# EAGLE library part REG_MODULE (library REG_MODULE)
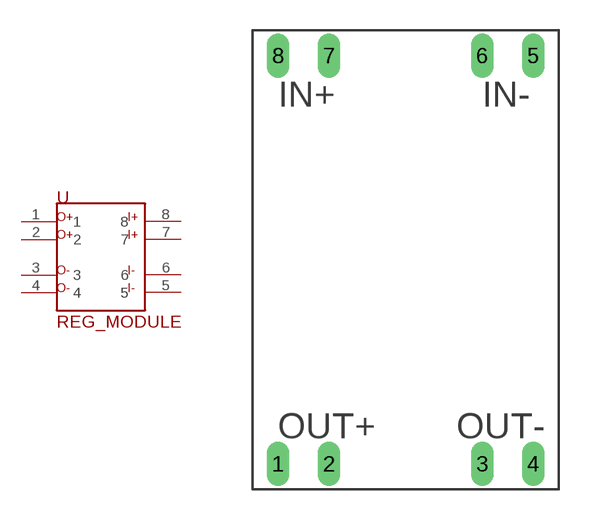
[diagram p0: symbol with the pads of REG_MODULE; footprint REG_MODULE]

Designator prefix -

## REG_MODULE  [REG_MODULE]
1  1
2  2
3  3
4  4
5  5
6  6
7  7
8  8

## Footprint REG_MODULE (pad centres in mm)
drill 0.6 long: 1 1.27,1.27; 2 3.81,1.27; 3 11.43,1.27; 4 13.97,1.27; 5 13.97,21.59; 6 11.43,21.59; 7 3.81,21.59; 8 1.27,21.59